# EAGLE library part SW_DIP_4P (library dp_devices)
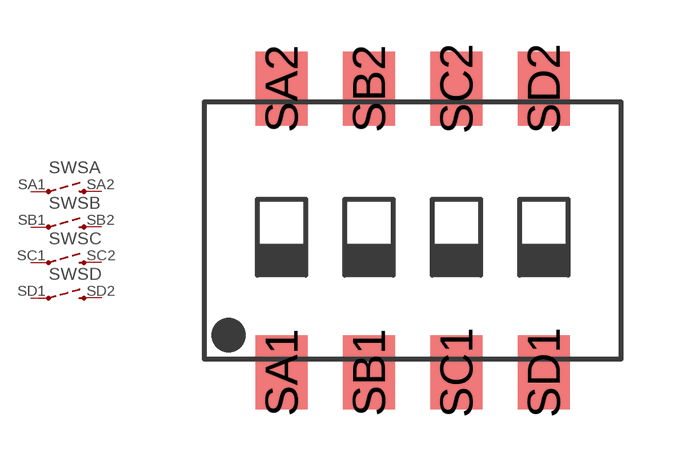
[diagram p145: symbol with the pads of SW-SMT-4; footprint SW-SMT-4]

Designator prefix SW; gates SA=SWITCH_4 SB=SWITCH_4 SC=SWITCH_4 SD=SWITCH_4

## SW_DIP_4P  [SW-SMT-4]
SA1  SA:1  pas
SA2  SA:2  pas
SB1  SB:1  pas
SB2  SB:2  pas
SC1  SC:1  pas
SC2  SC:2  pas
SD1  SD:1  pas
SD2  SD:2  pas

## Footprint SW-SMT-4 (pad centres in mm)
Low Profile SMT switch SDA04H0SB <http://www.mouser.com/ds/2/60/SDA_27feb14-221967.pdf>
smd 1.5 x 2.15: SA1 -3.81,-4.125; SA2 -3.81,4.125; SB1 -1.27,-4.125; SB2 -1.27,4.125; SC1 1.27,-4.125; SC2 1.27,4.125; SD1 3.81,-4.125; SD2 3.81,4.125